# Altium footprint library QUTMS-MCISOLibrary.PcbLib: 37 footprints (part 2 of 3)
Each footprint in its own frame and in the unit in brackets; x right, y up, seen from the top. Pads: shape width x height; smd on the part's side, far side on the other; paste and mask are expansions set on the pad; w line width, h text height; cw(c..) or ccw(c..) is an arc to the next point about the centre after c.
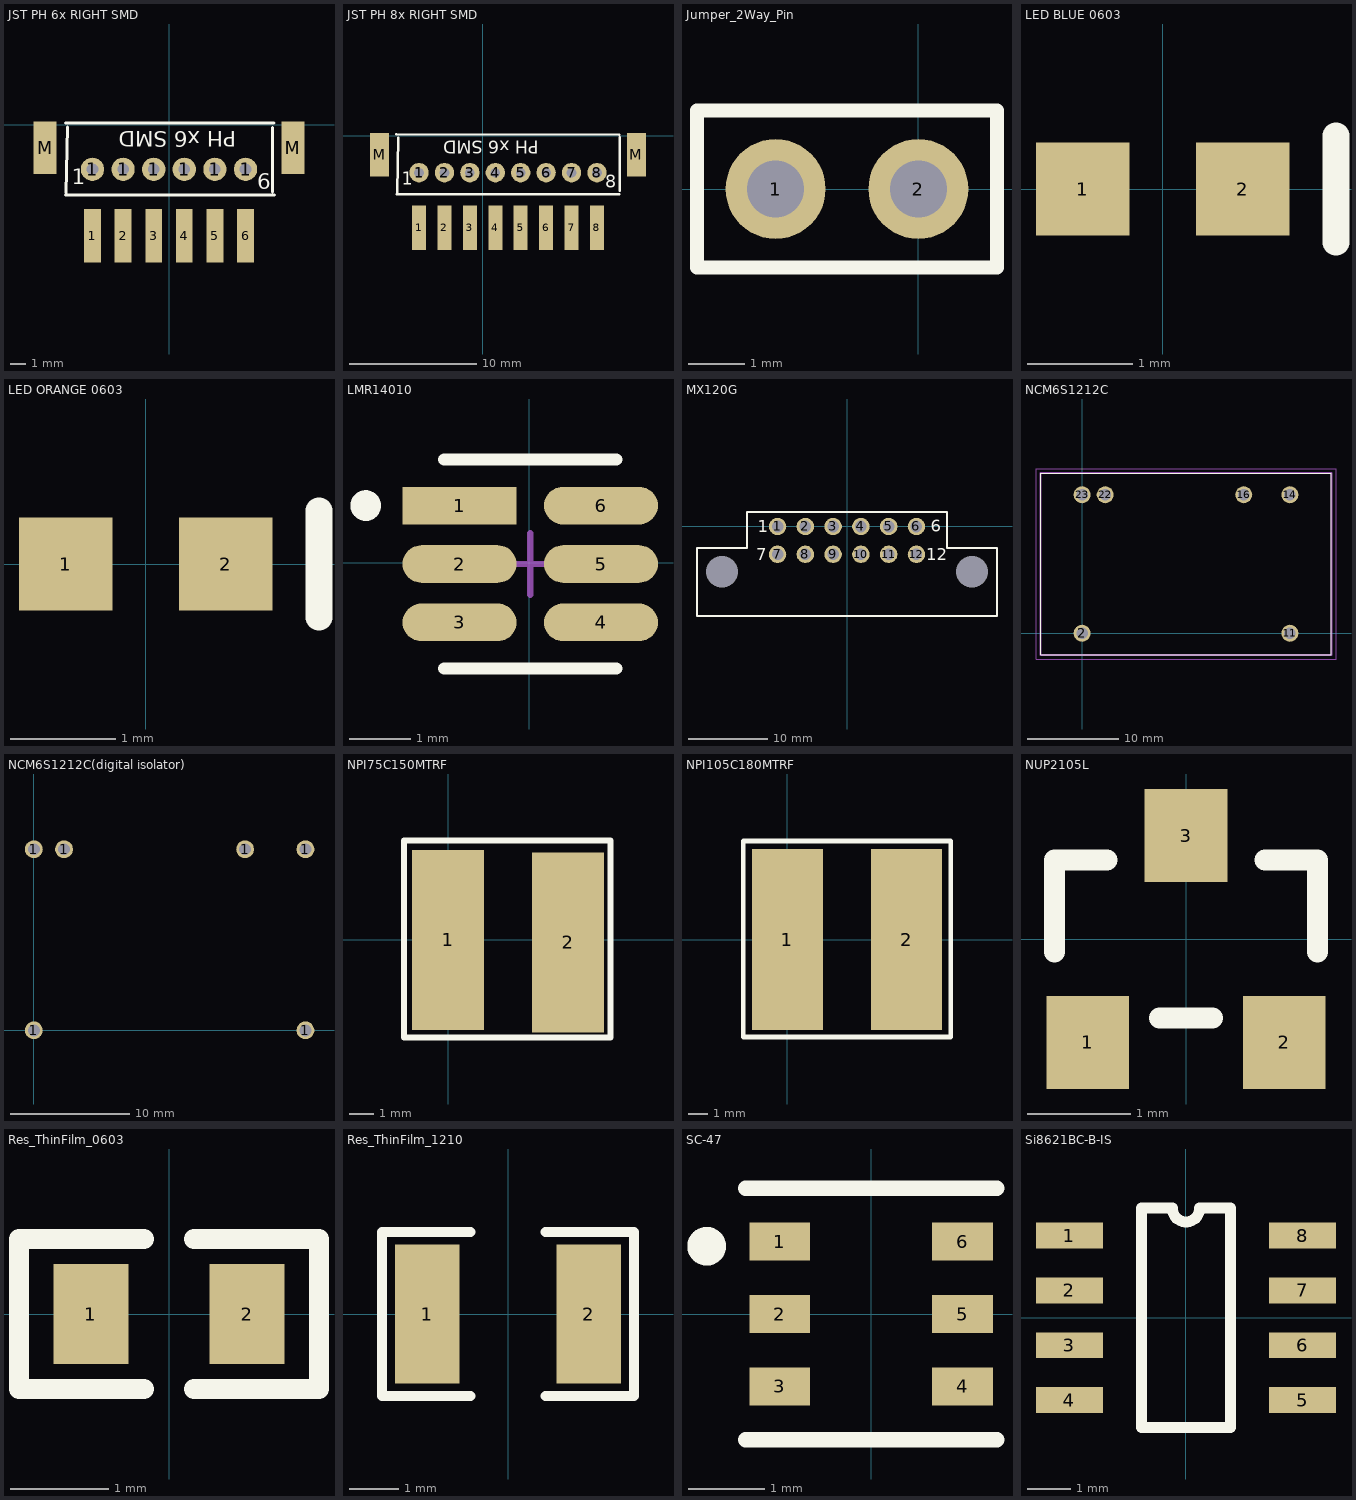
[diagram p1: the footprints below, top view; thin cyan lines are the x and y axes]

## JST PH 6x RIGHT SMD [mm]
pads (14):
  rect 1.1x3.5 smd: 1(-5,-7.25) 2(-3,-7.25) 3(-1,-7.25) 4(1,-7.25) 5(3,-7.25) 6(5,-7.25)
  round 1.524 hole 0.762: 1(-5,-2.91) 1(-3,-2.91) 1(-1,-2.91) 1(1,-2.91) 1(3,-2.91) 1(5,-2.91)
  rect 1.5x3.4 smd: M(-8.1,-1.5) M(8.1,-1.5)
Top Overlay:
  lines w0.2: -6.775,0.125 6.85,0.125 ; -6.75,-4.6 6.875,-4.6 ; -6.725,-4.45 -6.625,-0.15 ; 6.775,-4.4 6.775,-0.175
  text "PH x6 SMD" at 4.401,-0.406 h1.02
  text "1" at -6.348,-3.873 h1.02
  text "6" at 5.777,-4.223 h1.02
3D body "JST - PH - SMD (R) - 6Pin - 2.00mm.stp": height 5.38, standoff 0, extent -8.173,-8.225 7.973,0.03
3D body "JST - PH - Thru (V) - 6Pin - 2.00mm.stp": height 5.89, standoff -3.05, extent -6.955,-4.575 6.906,0.099

## JST PH 8x RIGHT SMD [mm]
pads (18):
  rect 1.1x3.5 smd: 1(-5,-7.25) 2(-3,-7.25) 3(-1,-7.25) 4(1,-7.25) 5(3,-7.25) 6(5,-7.25) 7(7,-7.25) 8(9,-7.25)
  round 1.524 hole 0.762: 1(-5,-2.91) 2(-3,-2.91) 3(-1,-2.91) 4(1,-2.91) 5(3,-2.91) 6(5,-2.91) 7(7,-2.91) 8(9,-2.91)
  rect 1.5x3.4 smd: M(-8.1,-1.5) M(12.1,-1.5)
Top Overlay:
  lines w0.2: -6.775,0.125 10.75,0.075 ; -6.75,-4.6 10.75,-4.6 ; -6.725,-4.45 -6.625,-0.15 ; 10.8,-4.35 10.8,-0.125
  text "PH x6 SMD" at 4.401,-0.406 h1.02
  text "1" at -6.348,-3.873 h1.02
  text "8" at 9.652,-4.098 h1.02
3D body "JST - PH - SMD (R) - 8Pin - 2.00mm.stp": height 5.38, standoff 0, extent -8.122,-8.002 12.025,0.252
3D body "JST - PH - Thru (V) - 8Pin - 2.00mm.stp": height 5.89, standoff -3.05, extent -6.955,-4.575 10.906,0.099

## Jumper_2Way_Pin [mil]
pads (2):
  round 70 hole 40: 1(-100,0) 2(0,0)
Top Overlay:
  lines w10: -155,-55 -155,55 55,55 55,-55 -155,-55
3D body "77311-y18-02_asm.stp": height 332.16, standoff -120.59, extent -142.38,-47.72 41.87,47.16

## LED BLUE 0603 [mil]
pads (2):
  rect 35x35 smd: 1(-30,0) 2(30,0)
Top Overlay:
  lines w10: 65,-20 65,20
3D body: height 30, standoff 1, extent -30,-17.5 30,17.5
3D body: height 7, standoff 0, extent -40,-20 40,20

## LED ORANGE 0603 [mil]
pads (2):
  rect 35x35 smd: 1(-30,0) 2(30,0)
Top Overlay:
  lines w10: 65,-20 65,20
3D body: height 7, standoff 0, extent -40,-20 40,20
3D body: height 30, standoff 1, extent -30,-17.5 30,17.5

## LMR14010 [mm]
pads (6):
  rect 1.854x0.612 smd paste+0 mask+0: 1(-1.136,0.933)
  rrect100% 1.854x0.612 smd paste+0 mask+0: 2(-1.136,-0.017) 3(-1.136,-0.967) 4(1.164,-0.967) 5(1.164,-0.017) 6(1.164,0.933)
Top Overlay:
  circle w0.25: c-2.663,0.933 r0.125
  lines w0.2: -1.386,-1.717 1.414,-1.717 ; -1.386,1.683 1.414,1.683
Mechanical 16:
  lines w0.1: -0.486,-0.017 0.514,-0.017 ; 0.014,-0.517 0.014,0.483
3D body "IC_Texas_Instruments_LMR14010ADDCR_eec.STEP": height 1.1, standoff 0, extent -1.386,-1.467 1.414,1.434

## MX120G [mm]
pads (14):
  round 2.2 hole 1.45: 1(-8.75,0) 2(-5.25,0) 3(-1.75,0) 4(1.75,0) 5(5.25,0) 6(8.75,0) 7(-8.75,-3.5) 8(-5.25,-3.5) 9(-1.75,-3.5) 10(1.75,-3.5) 11(5.25,-3.5) 12(8.75,-3.5)
  round 0 hole 4 mask+0.254: NC(-15.75,-5.7) NC(15.75,-5.7)
Top Overlay:
  lines w0.254: -18.9,-11.25 18.9,-11.25 ; -18.9,-11.2 -18.9,-5.7 -18.9,-2.7 -15.75,-2.7 -12.6,-2.7 -12.6,1.8 12.6,1.8 12.6,-2.7 15.75,-2.7 18.9,-2.7 18.9,-5.7 18.9,-11.2
  text "1" at -11.246,-0.746 h1.52
  text "7" at -11.446,-4.246 h1.52
  text "6" at 10.554,-0.646 h1.52
  text "12" at 9.954,-4.246 h1.52
3D body "143626.stp": height 24.48, standoff -3.14, extent -18.779,-32.1 18.579,0.358

## NCM6S1212C [mm]
pads (6):
  round 1.875 hole 1.25: 2(0,0) 11(22.86,0) 14(22.86,15.24) 16(17.78,15.24) 22(2.54,15.24) 23(0,15.24)
Top Overlay:
  lines w0.1: -4.57,-2.38 -4.57,17.62 27.43,17.62 27.43,-2.38 -4.57,-2.38
Mechanical 13:
  lines w0.2: -4.57,-2.38 -4.57,17.62 27.43,17.62 27.43,-2.38 -4.57,-2.38
Mechanical 15:
  lines w0.1: -5.07,-2.88 -5.07,18.12 27.93,18.12 27.93,-2.88 -5.07,-2.88
3D body "NCM6S1212C.stp": height 10.85, standoff -5, extent -4.57,-2.38 27.43,17.62

## NCM6S1212C(digital isolator) [mm]
pads (6):
  round 1.5 hole 1: 1(0,0) 1(0,15.24) 1(2.54,15.24) 1(17.78,15.24) 1(22.86,0) 1(22.86,15.24)
Multi-Layer:
  lines w0.254: -1.25,-1.275 24,-1.275 24,16.65 -1.25,16.65 -1.25,-1.275

## NPI75C150MTRF [mm]
pads (2):
  rect 3x7.5 smd: 1(0,0) 2(5,-0.1)
Top Overlay:
  lines w0.254: -1.825,-4.075 6.775,-4.075 6.775,4.15 -1.6,4.15 -1.825,4.15 -1.825,-4.075

## NPI105C180MTRF [mm]
pads (2):
  rect 3.75x9.5 smd: 1(0,0) 2(6.25,0)
Top Overlay:
  lines w0.254: -2.325,-5.1 8.575,-5.1 8.575,5.175 -2.325,5.175 -2.325,-5.1

## NUP2105L [mm]
pads (3):
  rect 0.8x0.9 smd: 1(-0.95,-1) 2(0.95,-1) 3(0,1)
Top Overlay:
  lines w0.203: -1.27,-0.127 -1.27,0.762 -0.762,0.762 ; -0.254,-0.762 0.254,-0.762 ; 0.762,0.762 1.27,0.762 1.27,-0.127
3D body "SOT-23-3.stp": height 1, standoff 0, extent -1.448,-1.224 1.452,1.176

## Res_ThinFilm_0603 [mil]
pads (2):
  rect 30x40 smd: 1(-31.24,0) 2(31.24,0)
Top Overlay:
  lines w8: -10,-30 -60,-30 -60,30 -10,30 ; 10,-30 60,-30 60,30 10,30
3D body "rsmd-0603_l1-6_w0-8_h0-45.stp": height 17.72, standoff 0, extent -31.49,-15.74 31.5,15.75

## Res_ThinFilm_1210 [mm]
pads (2):
  rect 1.3x2.8 smd: 1(-1.625,0) 2(1.625,0)
Top Overlay:
  lines w0.203: -0.762,-1.651 -2.54,-1.651 -2.54,1.651 -0.762,1.651 ; 0.762,-1.651 2.54,-1.651 2.54,1.651 0.762,1.651
3D body "rsmd-1210_l3-2_w2-5_h0-6.stp": height 0.6, standoff 0, extent -1.6,-1.25 1.6,1.25

## SC-47 [mm]
pads (6):
  rect 0.8x0.5 smd: 1(-1.2,0.95) 2(-1.2,0) 3(-1.2,-0.95) 4(1.2,-0.95) 5(1.2,0) 6(1.2,0.95)
Top Overlay:
  circle w0.254: c-2.159,0.889 r0.127
  lines w0.2: -1.651,-1.651 1.651,-1.651 ; -1.651,1.651 1.651,1.651
3D body "SC-74-6.stp": height 1.14, standoff 0.04, extent -1.3,-1.45 1.3,1.45

## Si8621BC-B-IS [mm]
pads (8):
  rect 1.55x0.6 smd: 1(-2.7,1.905) 2(-2.7,0.635) 3(-2.7,-0.635) 4(-2.7,-1.905) 5(2.7,-1.905) 6(2.7,-0.635) 7(2.7,0.635) 8(2.7,1.905)
Top Overlay:
  lines w0.254: -1.036,-2.54 -1.036,2.54 -0.317,2.54 ccw(c0,2.54) 0.318,2.54 1.036,2.54 1.036,-2.54 -1.036,-2.54
3D body "D0008A.stp": height 1.63, standoff 0, extent -3.011,-2.449 3.012,2.453